# Altium footprint library RES_ERJS1TJ561U.PcbLib: 1 footprints
Each footprint in its own frame and in the unit in brackets; x right, y up, seen from the top. Pads: shape width x height; smd on the part's side, far side on the other; paste and mask are expansions set on the pad; w line width, h text height; cw(c..) or ccw(c..) is an arc to the next point about the centre after c.
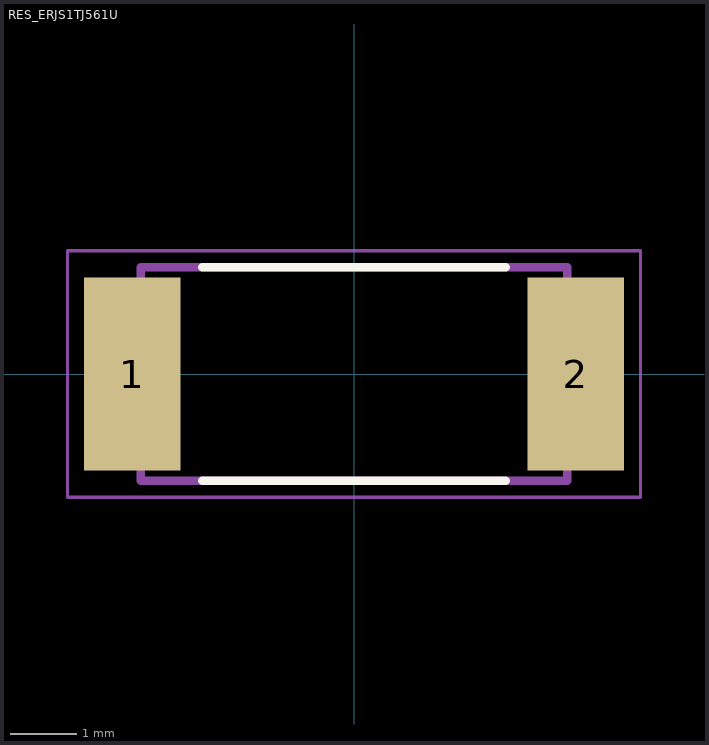
[diagram p0: the footprint, top view; thin cyan lines are the x and y axes]

## RES_ERJS1TJ561U [mm]
pads (2):
  rect 1.45x2.9 smd: 1(-3.325,0) 2(3.325,0)
Top Overlay:
  lines w0.127: -2.28,-1.6 2.28,-1.6 ; -2.28,1.6 2.28,1.6
Mechanical 13:
  lines w0.127: -3.2,-1.6 3.2,-1.6 3.2,1.6 -3.2,1.6 -3.2,-1.6
Mechanical 15:
  lines w0.05: -4.3,-1.85 4.3,-1.85 4.3,1.85 -4.3,1.85 -4.3,-1.85
3D body "ERJ-S1TJ561U.STEP": height 0.6, standoff 0, extent -3.327,-1.6 3.073,1.6